# EAGLE library part IC_IRDA_RPM851A (library mylib_20130829)
RPM851A : ROHM IrDA(Ver.1.0) Module
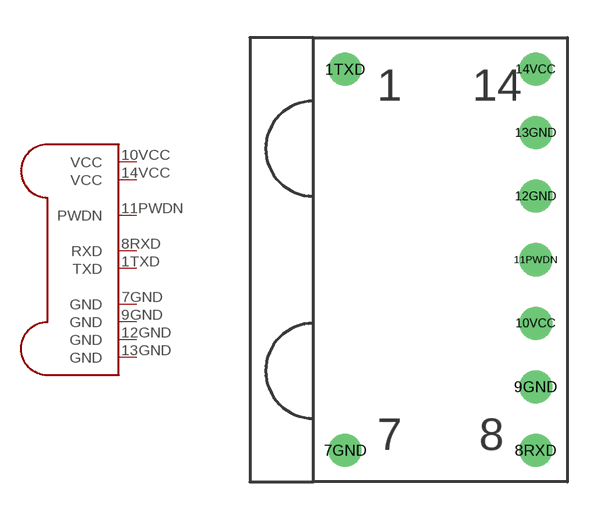
[diagram p24: symbol with the pads of IC_RPM851A; footprint IC_RPM851A]

Designator prefix -

## IC_IRDA_RPM851A  [IC_RPM851A]
1TXD  TXD
7GND  GND
8RXD  RXD
9GND  GND
10VCC  VCC
11PWDN  PWDN
12GND  GND
13GND  GND
14VCC  VCC

## Footprint IC_RPM851A (pad centres in mm)
drill 0.813: 1TXD -2.54,7.62; 7GND -2.54,-7.62; 8RXD 5.08,-7.62; 9GND 5.08,-5.08; 10VCC 5.08,-2.54; 11PWDN 5.08,0; 12GND 5.08,2.54; 13GND 5.08,5.08; 14VCC 5.08,7.62